# EAGLE library part ADC128S022 (library HyTechDevices)
ADC128S022 8-channel Analog to Digital Regulator Datasheet <https://www.ti.com/lit/ds/symlink/adc128s022.pdf?ts=1609290895378&ref_url=https%253A%252F%252Fwww.ti.com%252Fproduct%252FADC128S022%253Fqgpn%253Dadc128s022>
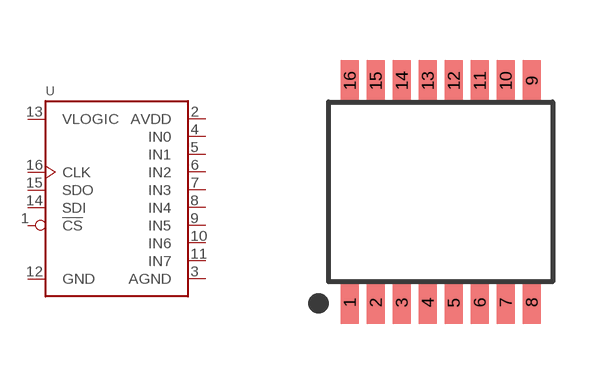
[diagram p2: symbol with the pads of TSSOP-16; footprint TSSOP-16]

Designator prefix U

## ADC128S022 (DKPN: 296-38561-1-ND; MANUFACTURER: Texas Instruments; MOPN: 926-A128S022CIMTXNPB; MPN: ADC128S022CIMTX/NOPB)  [TSSOP-16]
1  !CS!  in
2  AVDD  pwr
3  AGND  pwr
4  IN0  in
5  IN1  in
6  IN2  in
7  IN3  in
8  IN4  in
9  IN5  in
10  IN6  in
11  IN7  in
12  GND  pwr
13  VLOGIC  pwr
14  SDI  in
15  SDO  out
16  CLK  in

## Footprint TSSOP-16 (pad centres in mm)
TSSOP-16 Adapted from TSSOP-14 Datasheet <https://www.analog.com/media/en/package-pcb-resources/package/pkg_pdf/ltc-legacy-tssop/TSSOP_14_05-08-1650.pdf> and TSSOP-20 Datasheet <https://www.analog.com/media/en/package-pcb-resources/package/pkg_pdf/ltc-legacy-tssop/TSSOP_20_05-08-1650.pdf>
smd 0.45 x 1.05: 1 -2.275,-2.775; 2 -1.625,-2.775; 3 -0.975,-2.775; 4 -0.325,-2.775; 5 0.325,-2.775; 6 0.975,-2.775; 7 1.625,-2.775; 8 2.275,-2.775; 9 2.275,2.775; 10 1.625,2.775; 11 0.975,2.775; 12 0.325,2.775; 13 -0.325,2.775; 14 -0.975,2.775; 15 -1.625,2.775; 16 -2.275,2.775